# EAGLE library part MALE_2X4 (library be_con_jump)
drawn: Mario Blunk / Blunk electronic
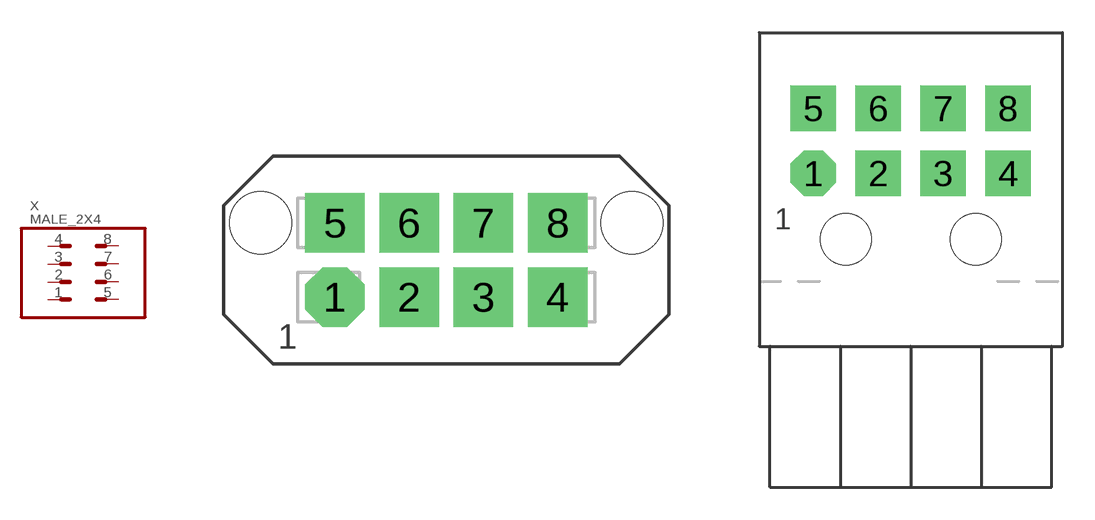
[diagram p5: symbol with the pads of T_MALE_2X4_MOLEX_PART_CODE_44769-0801; footprints T_MALE_2X4_MOLEX_PART_CODE_44769-0801, T_MALE_2X4_MOLEX_PART_CODE_44764-0801]

Designator prefix X

## MALE_2X4-T-VERTICAL (BOM: YES; COMMISSIONED: 2013-08-30; PART_CODE_BEL: X_PAC_T_MALE_2X4_MOLEX_PART_CODE_44769-0801)  [T_MALE_2X4_MOLEX_PART_CODE_44769-0801]
1  1  pas
2  2  pas
3  3  pas
4  4  pas
5  5  pas
6  6  pas
7  7  pas
8  8  pas

## MALE_2X4-T-HORIZONTAL (BOM: YES; COMMISSIONED: 2014-03-26; PART_CODE_BEL: X_PAC_T_MALE_2X4_MOLEX_PART_CODE_44764-0801)  [T_MALE_2X4_MOLEX_PART_CODE_44764-0801]
Pads as for T_MALE_2X4_MOLEX_PART_CODE_44769-0801

## Footprint T_MALE_2X4_MOLEX_PART_CODE_44769-0801 (pad centres in mm)
edited: Mario Blunk / Blunk electronic date: 2014-03-26
drill 1.2 pad 2.4 octagon: 1 -4.5,-1.5
drill 1.2 pad 2.4 square: 2 -1.5,-1.5; 3 1.5,-1.5; 4 4.5,-1.5; 5 -4.5,1.5; 6 -1.5,1.5; 7 1.5,1.5; 8 4.5,1.5
hole 2.5 at 7.5,1.5
hole 2.5 at -7.5,1.5

## Footprint T_MALE_2X4_MOLEX_PART_CODE_44764-0801 (pad centres in mm)
drawn: Mario Blunk / Blunk electronic date: 2014-04-09 - changed pad diameters to 2.1mm
drill 1.2 pad 2.1 octagon: 1 -4.5,-1.5
drill 1.2 pad 2.1 square: 2 -1.5,-1.5; 3 1.5,-1.5; 4 4.5,-1.5; 5 -4.5,1.5; 6 -1.5,1.5; 7 1.5,1.5; 8 4.5,1.5
hole 2.36 at 3,-4.55
hole 2.36 at -3,-4.55